# EAGLE library part 79109-06 (library con-molex-milli-grid)
RECEPTACAL
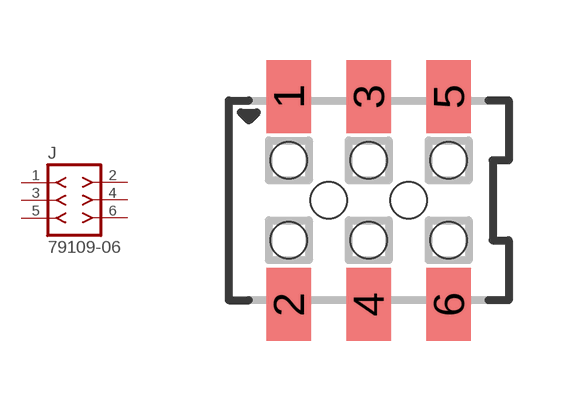
[diagram p160: symbol with the pads of 79109-06; footprint 79109-06]

Designator prefix J

## 79109-06  [79109-06]
1  1  pas
2  2  pas
3  3  pas
4  4  pas
5  5  pas
6  6  pas

## Footprint 79109-06 (pad centres in mm)
RECEPTACAL SMD Dual Row, Vertical, Pass-Thru
smd 1.12 x 1.83: 1 -2,2.6; 2 -2,-2.6; 3 0,2.6; 4 0,-2.6; 5 2,2.6; 6 2,-2.6
hole 0.914 at -1,0
hole 0.914 at -2,1
hole 0.914 at -2,-1
hole 0.914 at 0,-1
hole 0.914 at 0,1
hole 0.914 at 2,-1
hole 0.914 at 2,1
hole 0.914 at 1,0